# EAGLE library part STM32F050CX (library pel_stm32)
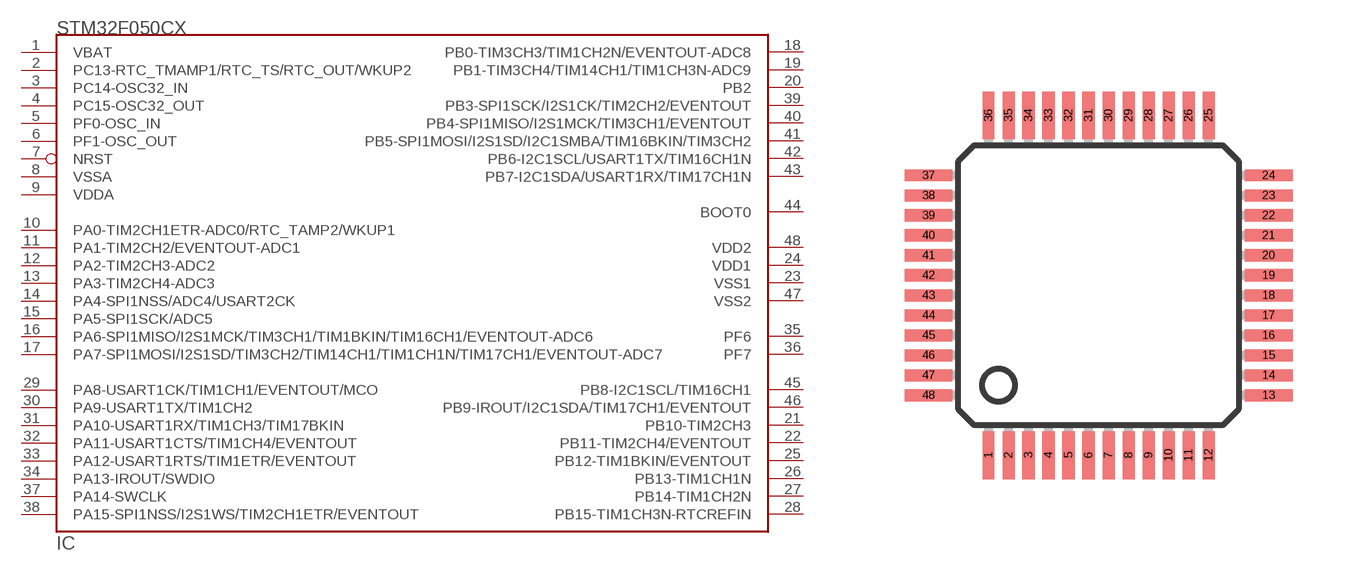
[diagram p7: symbol with the pads of LQFP48; footprint LQFP48]

Designator prefix IC

## STM32F050CX  [LQFP48]
1  VBAT  sup
2  PC13-RTC_TMAMP1/RTC_TS/RTC_OUT/WKUP2
3  PC14-OSC32_IN
4  PC15-OSC32_OUT
5  PF0-OSC_IN  in
6  PF1-OSC_OUT  out
7  NRST
8  VSSA  sup
9  VDDA  sup
10  PA0-TIM2CH1ETR-ADC0/RTC_TAMP2/WKUP1
11  PA1-TIM2CH2/EVENTOUT-ADC1
12  PA2-TIM2CH3-ADC2
13  PA3-TIM2CH4-ADC3
14  PA4-SPI1NSS/ADC4/USART2CK
15  PA5-SPI1SCK/ADC5
16  PA6-SPI1MISO/I2S1MCK/TIM3CH1/TIM1BKIN/TIM16CH1/EVENTOUT-ADC6
17  PA7-SPI1MOSI/I2S1SD/TIM3CH2/TIM14CH1/TIM1CH1N/TIM17CH1/EVENTOUT-ADC7
18  PB0-TIM3CH3/TIM1CH2N/EVENTOUT-ADC8
19  PB1-TIM3CH4/TIM14CH1/TIM1CH3N-ADC9
20  PB2
21  PB10-TIM2CH3
22  PB11-TIM2CH4/EVENTOUT
23  VSS1  sup
24  VDD1  sup
25  PB12-TIM1BKIN/EVENTOUT
26  PB13-TIM1CH1N
27  PB14-TIM1CH2N
28  PB15-TIM1CH3N-RTCREFIN
29  PA8-USART1CK/TIM1CH1/EVENTOUT/MCO
30  PA9-USART1TX/TIM1CH2
31  PA10-USART1RX/TIM1CH3/TIM17BKIN
32  PA11-USART1CTS/TIM1CH4/EVENTOUT
33  PA12-USART1RTS/TIM1ETR/EVENTOUT
34  PA13-IROUT/SWDIO
35  PF6  sup
36  PF7  sup
37  PA14-SWCLK
38  PA15-SPI1NSS/I2S1WS/TIM2CH1ETR/EVENTOUT
39  PB3-SPI1SCK/I2S1CK/TIM2CH2/EVENTOUT
40  PB4-SPI1MISO/I2S1MCK/TIM3CH1/EVENTOUT
41  PB5-SPI1MOSI/I2S1SD/I2C1SMBA/TIM16BKIN/TIM3CH2
42  PB6-I2C1SCL/USART1TX/TIM16CH1N
43  PB7-I2C1SDA/USART1RX/TIM17CH1N
44  BOOT0  in
45  PB8-I2C1SCL/TIM16CH1
46  PB9-IROUT/I2C1SDA/TIM17CH1/EVENTOUT
47  VSS2  sup
48  VDD2  sup

## Footprint LQFP48 (pad centres in mm)
Based on STM PCB layout recomendations.
smd 0.3 x 1.2: 1 -2.75,-4.25; 2 -2.25,-4.25; 3 -1.75,-4.25; 4 -1.25,-4.25; 5 -0.75,-4.25; 6 -0.25,-4.25; 7 0.25,-4.25; 8 0.75,-4.25; 9 1.25,-4.25; 10 1.75,-4.25; 11 2.25,-4.25; 12 2.75,-4.25; 25 2.75,4.25; 26 2.25,4.25; 27 1.75,4.25; 28 1.25,4.25; 29 0.75,4.25; 30 0.25,4.25; 31 -0.25,4.25; 32 -0.75,4.25; 33 -1.25,4.25; 34 -1.75,4.25; 35 -2.25,4.25; 36 -2.75,4.25
smd 1.2 x 0.3: 13 4.25,-2.75; 14 4.25,-2.25; 15 4.25,-1.75; 16 4.25,-1.25; 17 4.25,-0.75; 18 4.25,-0.25; 19 4.25,0.25; 20 4.25,0.75; 21 4.25,1.25; 22 4.25,1.75; 23 4.25,2.25; 24 4.25,2.75; 37 -4.25,2.75; 38 -4.25,2.25; 39 -4.25,1.75; 40 -4.25,1.25; 41 -4.25,0.75; 42 -4.25,0.25; 43 -4.25,-0.25; 44 -4.25,-0.75; 45 -4.25,-1.25; 46 -4.25,-1.75; 47 -4.25,-2.25; 48 -4.25,-2.75